# EAGLE library part PIC16F1705 (library mathrax-ic)
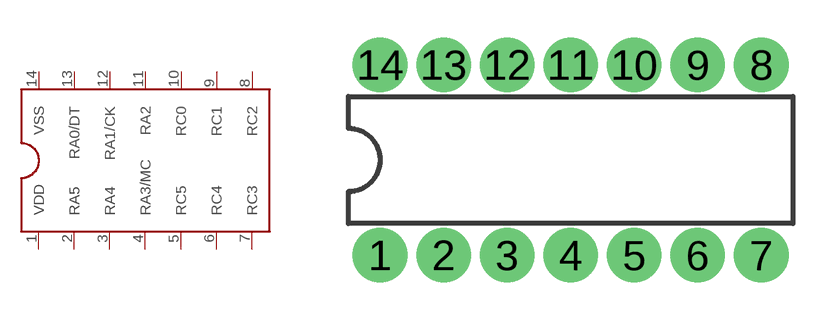
[diagram p2: symbol with the pads of 14PIN_DIP; footprint 14PIN_DIP]

Designator prefix -

## PIC16F1705  [14PIN_DIP]
1  VDD
2  RA5
3  RA4
4  RA3/MC
5  RC5
6  RC4
7  RC3
8  RC2
9  RC1
10  RC0
11  RA2
12  RA1/CK
13  RA0/DT
14  VSS

## Footprint 14PIN_DIP (pad centres in mm)
drill 0.8 pad 2.184: 1 -7.62,-3.81; 2 -5.08,-3.81; 3 -2.54,-3.81; 4 0,-3.81; 5 2.54,-3.81; 6 5.08,-3.81; 7 7.62,-3.81; 8 7.62,3.81; 9 5.08,3.81; 10 2.54,3.81; 11 0,3.81; 12 -2.54,3.81; 13 -5.08,3.81; 14 -7.62,3.81